# Altium schematic symbol library SCH - POWER - LINEAR VREG - ST LDL1117.SchLib: 1 symbol
Pins are listed as number, name and electrical type; pins without a type are passive.

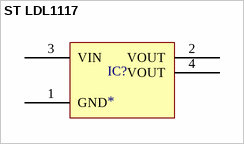
[diagram p0: symbol ST LDL1117]

## ST LDL1117
designator IC?
pins: 1 GND, 2 VOUT, 3 VIN, 4 VOUT